# EAGLE library part NEWHAVEN_LCD (library mcu-accessories)
2x16 char LCD, Newhaven PN NHD-C0216CZ-FSW-FBW-3V3 or similar.
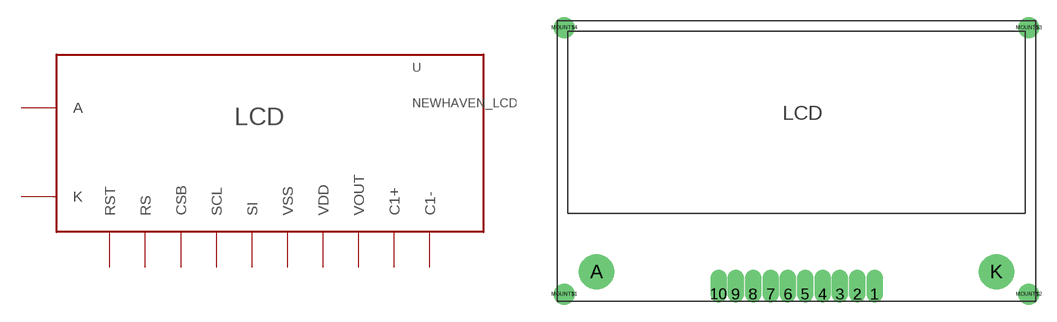
[diagram p0: symbol with the pads of NEWHAVEN_LCD; footprint NEWHAVEN_LCD]

Designator prefix U

## NEWHAVEN_LCD (PARTNUM: NHD-C0216CZ-FSW-FBW-3V3-ND)  [NEWHAVEN_LCD]
1  RST
2  RS
3  CSB
4  SCL
5  SI
6  VSS
7  VDD
8  VOUT
9  C1+
10  C1-
A  A
K  K

## Footprint NEWHAVEN_LCD (pad centres in mm)
Newhaven LCD Display; http://www.newhavendisplay.com/specs/NHD-C0216CZ-FSW-FBW-3V3.pdf or equivalent.
drill 0.9 pad 1.2 offset: 1 27.45,0.6; 2 25.95,0.6; 3 24.45,0.6; 4 22.95,0.6; 5 21.45,0.6; 6 19.95,0.6; 7 18.45,0.6; 8 16.95,0.6; 9 15.45,0.6; 10 13.95,0.6
drill 2 pad 3.048: A 3.4,2.55; K 38,2.55
drill 1.2: MOUNT$1 0.6,0.6; MOUNT$2 40.8,0.6; MOUNT$3 40.8,23.7; MOUNT$4 0.6,23.7